# Altium schematic symbol library 2026-03-06_01-03-46.SchLib: 1 symbol
Pins are listed as number, name and electrical type; pins without a type are passive.

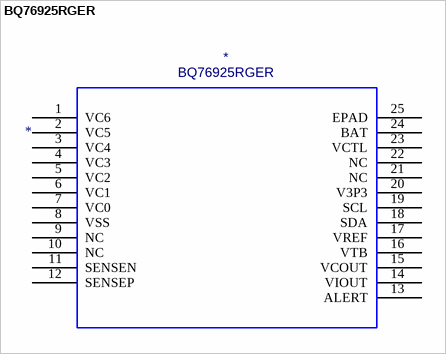
[diagram p0: symbol BQ76925RGER]

## BQ76925RGER
designator *  value BQ76925RGER
ki_fp_filters: RGE24_2P45X2P45; Footprint: RGE24_2P45X2P45; Supplier: https://www.ti.com/lit/gpn/bq76925; ki_keywords: BQ76925RGER
footprint RGE24_2P45X2P45
pins: 1 VC6, 2 VC5, 3 VC4, 4 VC3, 5 VC2, 6 VC1, 7 VC0, 8 VSS, 9 NC, 10 NC, 11 SENSEN, 12 SENSEP, 13 ALERT, 14 VIOUT, 15 VCOUT, 16 VTB, 17 VREF, 18 SDA, 19 SCL, 20 V3P3, 21 NC, 22 NC, 23 VCTL, 24 BAT, 25 EPAD